# EAGLE library part AD8607ARZ (library AD8607ARZ)
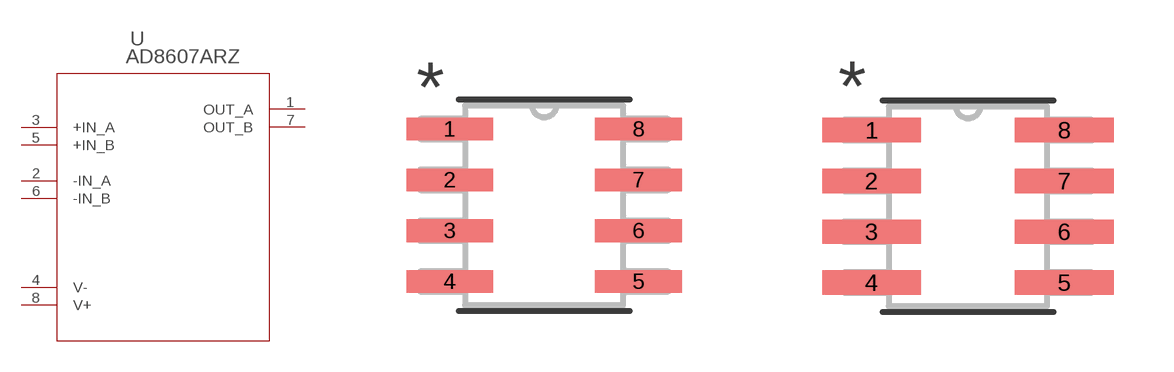
[diagram p0: symbol with the pads of R_8; footprints R_8, R_8-M]

Designator prefix U

## AD8607ARZ (MANUFACTURER_PART_NUMBER: AD8607ARZ; VENDOR: Analog Devices Inc)  [R_8]
1  OUT_A  pas
2  -IN_A  pas
3  +IN_A  pas
4  V-  pas
5  +IN_B  pas
6  -IN_B  pas
7  OUT_B  pas
8  V+  pas

## AD8607ARZR_8-M (MANUFACTURER_PART_NUMBER: AD8607ARZ; VENDOR: Analog Devices Inc)  [R_8-M]
Pads as for R_8

## AD8607ARZR_8-L (MANUFACTURER_PART_NUMBER: AD8607ARZ; VENDOR: Analog Devices Inc)  [R_8-L]
Pads as for R_8

## Footprint R_8 (pad centres in mm)
smd 2.173 x 0.568: 1 -2.362,1.905; 2 -2.362,0.635; 3 -2.362,-0.635; 4 -2.362,-1.905; 5 2.362,-1.905; 6 2.362,-0.635; 7 2.362,0.635; 8 2.362,1.905

## Footprint R_8-M (pad centres in mm)
smd 2.473 x 0.608: 1 -2.412,1.905; 2 -2.412,0.635; 3 -2.412,-0.635; 4 -2.412,-1.905; 5 2.412,-1.905; 6 2.412,-0.635; 7 2.412,0.635; 8 2.412,1.905

## Footprint R_8-L (pad centres in mm)
smd 1.873 x 0.528: 1 -2.312,1.905; 2 -2.312,0.635; 3 -2.312,-0.635; 4 -2.312,-1.905; 5 2.312,-1.905; 6 2.312,-0.635; 7 2.312,0.635; 8 2.312,1.905